# EAGLE library part AD7705AN (library 1my_components)
ADC with differential inputs, chto bbllo, kak govoritsya
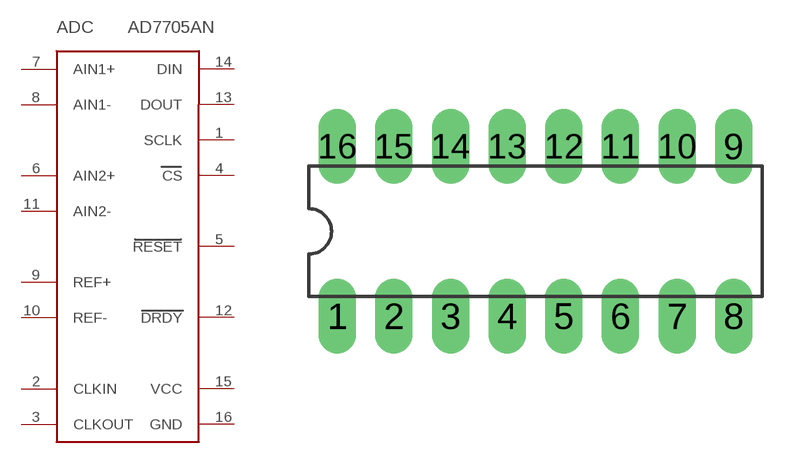
[diagram p2: symbol with the pads of DIL-16; footprint DIL-16]

Designator prefix ADC

## AD7705AN  [DIL-16]
1  SCLK
2  CLKIN  in
3  CLKOUT  in
4  CS
5  RESET  in
6  AIN2+  in
7  AIN1+  in
8  AIN1-  in
9  REF+  in
10  REF-  in
11  AIN2-  in
12  DRDY  out
13  DOUT
14  DIN
15  VCC  pwr
16  GND  pwr

## Footprint DIL-16 (pad centres in mm)
drill 0.406 pad 1.676 long: 1 -8.89,-3.81; 2 -6.35,-3.81; 3 -3.81,-3.81; 4 -1.27,-3.81; 5 1.27,-3.81; 6 3.81,-3.81; 7 6.35,-3.81; 8 8.89,-3.81; 9 8.89,3.81; 10 6.35,3.81; 11 3.81,3.81; 12 1.27,3.81; 13 -1.27,3.81; 14 -3.81,3.81; 15 -6.35,3.81; 16 -8.89,3.81